# EAGLE library part 687122182122 (library Wurth_Elektronik_Electromechanic_FPC_Connectors_&_Flat_Flexible_Cable_rev16a)
CONFPCI - 0.5 MM PITCH HORIZONTAL DUAL CONTACT, BACK FLIP ACTUATOR=>Code : ConFPC-687228182122 Characteristics INSULATOR: LCP FLAMABILITY RATING: UL94-V0 COLOUR: IVORY CONTACT MATERIAL: PHOSPHOR BRONZE CONTACT PLATING: 80 μ’’ MAT TIN OVER 50 μ’’ NICKEL CONTACT TYPE: STAMPED TAB MATERIAL: BRASS TAB PLATING: 80 μ’’ MAT TIN OVER 50 μ’’ NICKEL TAB TYPE: STAMPED ACTUATOR MATERIAL: PA9T ACTUATOR COLOUR: BLACK QUALITY CLASS: 20 MATING CYCLES PITCH: 0.50 MM PACKAGING:TAPE AND REEL COMPLIANCE: ROHS AND HALOGEN FREE OPERATING TEMPERATURE: -40°C UP TO +105°C ELECTRICAL CURRENT RATING: 0.5A WORKING VOLTAGE: 50 VAC WITHSTANDING VOLTAGE: 0.25 KVAC/min CONTATC RESISTANCE: 30 mOHM INSULATION RESISTANCE: >500 MΩ <http://katalog.we-online.de/media/images/v2/Family_WR-FPC_687186182122.jpg> Details see: http://katalog.we-online.de/en/em/FPC_0_5_SMT_ZIF_HORIZONTAL_DUAL_CONTACT_BACK_LOCKING_6871XX182122 2015 (C) Wurth Elektronik
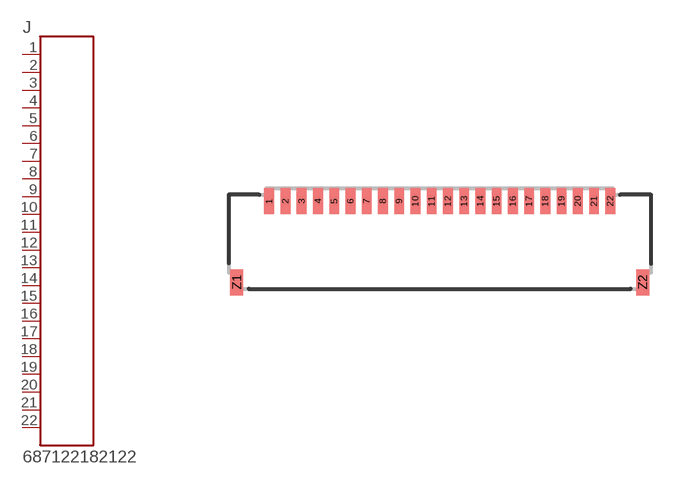
[diagram p147: symbol with the pads of 687122182122; footprint 687122182122]

Designator prefix J

## 687122182122  [687122182122]
1  1  pas
2  2  pas
3  3  pas
4  4  pas
5  5  pas
6  6  pas
7  7  pas
8  8  pas
9  9  pas
10  10  pas
11  11  pas
12  12  pas
13  13  pas
14  14  pas
15  15  pas
16  16  pas
17  17  pas
18  18  pas
19  19  pas
20  20  pas
21  21  pas
22  22  pas

## Footprint 687122182122 (pad centres in mm)
smd 0.3 x 0.8: 1 -5.25,1.25; 2 -4.75,1.25; 3 -4.25,1.25; 4 -3.75,1.25; 5 -3.25,1.25; 6 -2.75,1.25; 7 -2.25,1.25; 8 -1.75,1.25; 9 -1.25,1.25; 10 -0.75,1.25; 11 -0.25,1.25; 12 0.25,1.25; 13 0.75,1.25; 14 1.25,1.25; 15 1.75,1.25; 16 2.25,1.25; 17 2.75,1.25; 18 3.25,1.25; 19 3.75,1.25; 20 4.25,1.25; 21 4.75,1.25; 22 5.25,1.25
smd 0.4 x 0.8: Z1 -6.25,-1.25; Z2 6.25,-1.25